# Altium footprint library SSOP16.PcbLib: 1 footprints
Each footprint in its own frame and in the unit in brackets; x right, y up, seen from the top. Pads: shape width x height; smd on the part's side, far side on the other; paste and mask are expansions set on the pad; w line width, h text height; cw(c..) or ccw(c..) is an arc to the next point about the centre after c.
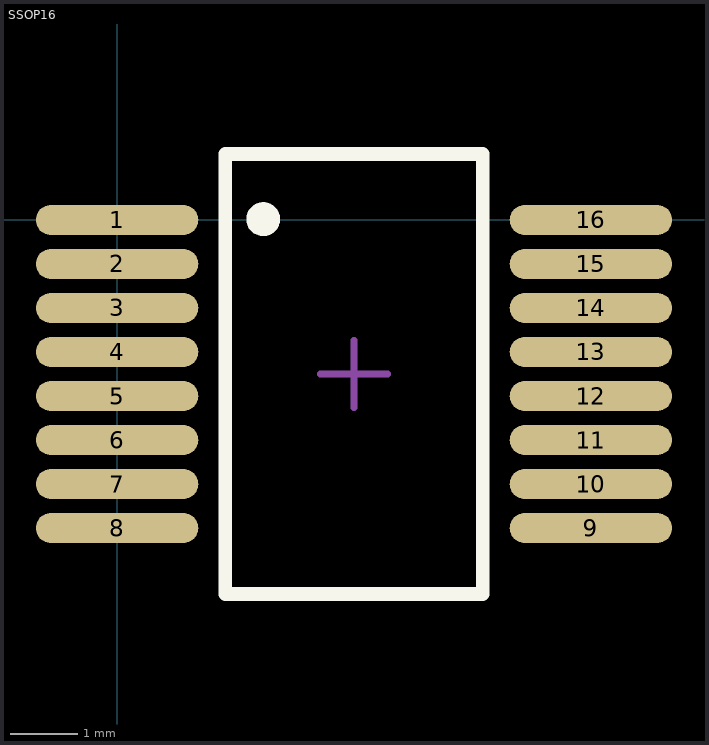
[diagram p0: the footprint, top view; thin cyan lines are the x and y axes]

## SSOP16 [mm]
pads (16):
  oval 2.4x0.45 smd: 1(0,0) 2(0,-0.65) 3(0,-1.3) 4(0,-1.95) 5(0,-2.6) 6(0,-3.25) 7(0,-3.9) 8(0,-4.55) 9(7,-4.55) 10(7,-3.9) 11(7,-3.25) 12(7,-2.6) 13(7,-1.95) 14(7,-1.3) 15(7,-0.65) 16(7,0)
Top Overlay:
  circle w0.25: c2.159,0.013 r0.125
  lines w0.2: 1.6,-5.525 1.6,0.975 5.4,0.975 5.4,-5.525 1.6,-5.525
Mechanical 15:
  lines w0.1: 3,-2.275 4,-2.275 ; 3.5,-2.775 3.5,-1.775
3D body: height 2, standoff 0, extent 0.8,-5.525 6.2,0.975